# Altium schematic symbol library SCH - POWER - SWITCHMODE - TI TPS65132WRVC.SchLib: 1 symbol
Pins are listed as number, name and electrical type; pins without a type are passive.

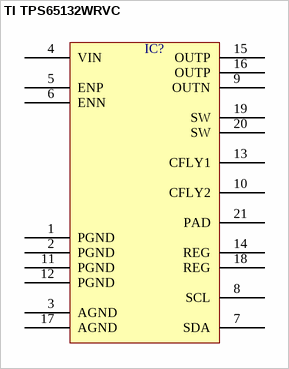
[diagram p0: symbol TI TPS65132WRVC]

## TI TPS65132WRVC
designator IC?  (value not drawn)
pins: 1 PGND, 2 PGND, 3 AGND, 4 VIN, 5 ENP, 6 ENN, 7 SDA, 8 SCL, 9 OUTN, 10 CFLY2, 11 PGND, 12 PGND, 13 CFLY1, 14 REG, 15 OUTP, 16 OUTP, 17 AGND, 18 REG, 19 SW, 20 SW, 21 PAD